# EAGLE library part RN41-I/RM (library RN41-I_RM)
Bluetooth Class I 35-Pin SMD Tray
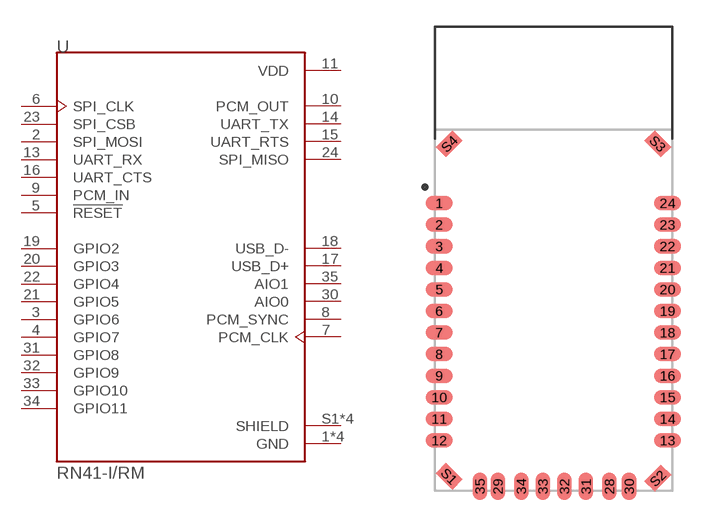
[diagram p0: symbol with the pads of XCVR_RN42-I/RM; footprint XCVR_RN42-I/RM]

Designator prefix U

## RN41-I/RM (Availability: Unavailable; Description: RN-41 Series 100 Meter Range 3 Mbps Class 1 Bluetooth Module; MF: Microchip; MP: RN41-I/RM; Package: SMD-35 Microchip; Price: None)  [XCVR_RN42-I/RM]
1  GND  pwr
2  SPI_MOSI  in
3  GPIO6
4  GPIO7
5  !RESET  in
6  SPI_CLK  in
7  PCM_CLK
8  PCM_SYNC
9  PCM_IN  in
10  PCM_OUT  out
11  VDD  pwr
12  GND  pwr
13  UART_RX  in
14  UART_TX  out
15  UART_RTS  out
16  UART_CTS  in
17  USB_D+
18  USB_D-
19  GPIO2
20  GPIO3
21  GPIO5
22  GPIO4
23  SPI_CSB  in
24  SPI_MISO  out
28  GND  pwr
29  GND  pwr
30  AIO0
31  GPIO8
32  GPIO9
33  GPIO10
34  GPIO11
35  AIO1
S1  SHIELD  pwr
S2  SHIELD  pwr
S3  SHIELD  pwr
S4  SHIELD  pwr

## Footprint XCVR_RN42-I/RM (pad centres in mm)
smd 1.5 x 0.8: 1 0.25,16; 2 0.25,14.8; 3 0.25,13.6; 4 0.25,12.4; 5 0.25,11.2; 6 0.25,10; 7 0.25,8.8; 8 0.25,7.6; 9 0.25,6.4; 10 0.25,5.2; 11 0.25,4; 12 0.25,2.8; 13 12.95,2.8; 14 12.95,4; 15 12.95,5.2; 16 12.95,6.4; 17 12.95,7.6; 18 12.95,8.8; 19 12.95,10; 20 12.95,11.2; 21 12.95,12.4; 22 12.95,13.6; 23 12.95,14.8; 24 12.95,16
smd 0.8 x 1.5: 28 9.7,0.25; 29 3.5,0.25; 30 10.8,0.25; 31 8.4,0.25; 32 7.2,0.25; 33 6,0.25; 34 4.8,0.25; 35 2.5,0.25
smd 1.3 x 0.8 rotated 135: S1 0.8,0.8; S3 12.4,19.3
smd 1.3 x 0.8 rotated 45: S2 12.4,0.7; S4 0.8,19.3